# Altium footprint library CAPACITOR.PcbLib: 26 footprints (part 2 of 2)
Each footprint in its own frame and in the unit in brackets; x right, y up, seen from the top. Pads: shape width x height; smd on the part's side, far side on the other; paste and mask are expansions set on the pad; w line width, h text height; cw(c..) or ccw(c..) is an arc to the next point about the centre after c.
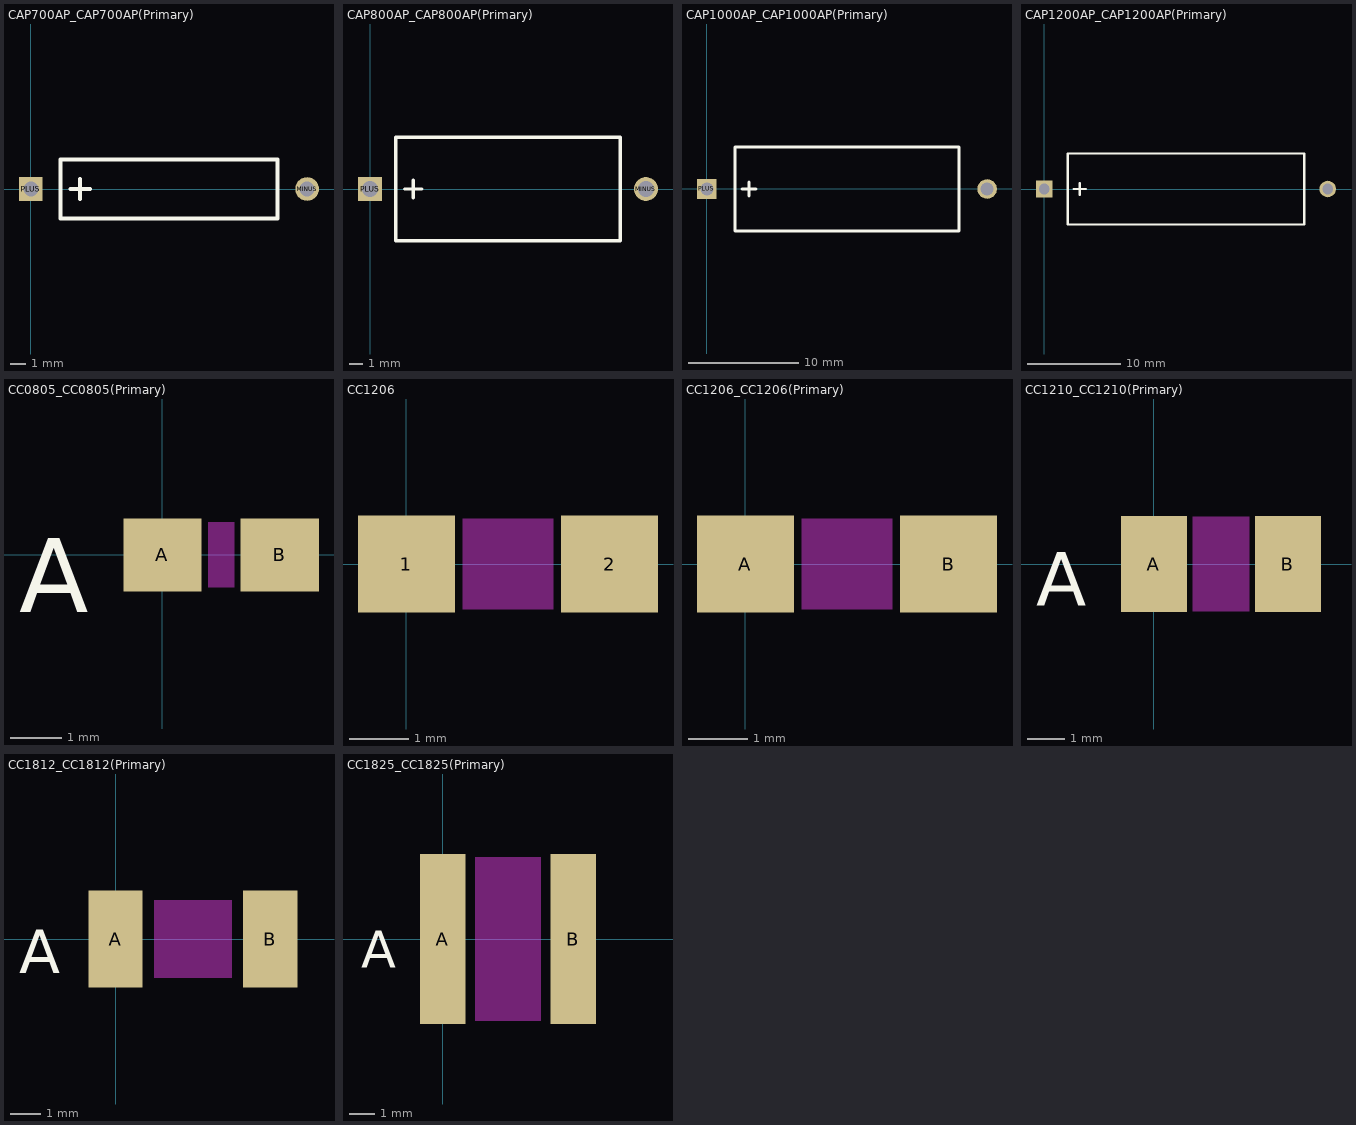
[diagram p1: the footprints below, top view; thin cyan lines are the x and y axes]

## CAP700AP_CAP700AP(Primary) [mil]
pads (2):
  round 60 hole 38: MINUS(700,0)
  rect 60x60 hole 38: PLUS(0,0)
Top Overlay:
  lines w10: 100,0 150,0 ; 125,-25 125,25 ; 75,-75 625,-75 625,75 75,75 75,-75

## CAP800AP_CAP800AP(Primary) [mil]
pads (2):
  round 70 hole 46: MINUS(800,0)
  rect 70x70 hole 46: PLUS(0,0)
Top Overlay:
  lines w10: 100,0 150,0 ; 125,-25 125,25 ; 75,-150 75,150 725,150 725,-150 75,-150

## CAP1000AP_CAP1000AP(Primary) [mil]
pads (2):
  round 70 hole 46: MINUS(1000,0)
  rect 70x70 hole 46: PLUS(0,0)
Top Overlay:
  lines w10: 125,0 175,0 ; 150,-25 150,25 ; 100,-150 900,-150 900,150 100,150 100,-150

## CAP1200AP_CAP1200AP(Primary) [mil]
pads (2):
  round 70 hole 46: MINUS(1200,0)
  rect 70x70 hole 46: PLUS(0,0)
Top Overlay:
  lines w10: 125,0 175,0 ; 150,-25 150,25 ; 100,-150 100,150 1100,150 1100,-150 100,-150

## CC0805_CC0805(Primary) [mil]
pads (2):
  rect 60x56 smd: A(0,0) B(90,0)
Top Overlay:
  text "A" at -110,-44 h56.88
Multi-Layer keep-out:
  region: 55,-25 55,25 35,25 35,-25

## CC1206 [mil]
pads (2):
  rect 64x64 smd: 1(0,0) 2(134,0)
Multi-Layer keep-out:
  region: 97,-30 97,30 37,30 37,-30

## CC1206_CC1206(Primary) [mil]
pads (2):
  rect 64x64 smd: A(0,0) B(134,0)
Multi-Layer keep-out:
  region: 97,-30 97,30 37,30 37,-30

## CC1210_CC1210(Primary) [mil]
pads (2):
  rect 70x102 smd: A(0,0) B(142,0)
Top Overlay:
  text "A" at -125,-44 h56.88
Multi-Layer keep-out:
  region: 101,-50 101,50 41,50 41,-50

## CC1812_CC1812(Primary) [mil]
pads (2):
  rect 70x126 smd: A(0,0) B(200,0)
Top Overlay:
  text "A" at -125,-44 h56.88
Multi-Layer keep-out:
  region: 150,-50 150,50 50,50 50,-50

## CC1825_CC1825(Primary) [mil]
pads (2):
  rect 70x260 smd: A(0,0) B(200,0)
Top Overlay:
  text "A" at -125,-44 h56.88
Multi-Layer keep-out:
  region: 150,-125 150,125 50,125 50,-125